# Altium footprint library PcbLib_Acura.PcbLib: 137 footprints (part 7 of 9)
Each footprint in its own frame and in the unit in brackets; x right, y up, seen from the top. Pads: shape width x height; smd on the part's side, far side on the other; paste and mask are expansions set on the pad; w line width, h text height; cw(c..) or ccw(c..) is an arc to the next point about the centre after c.
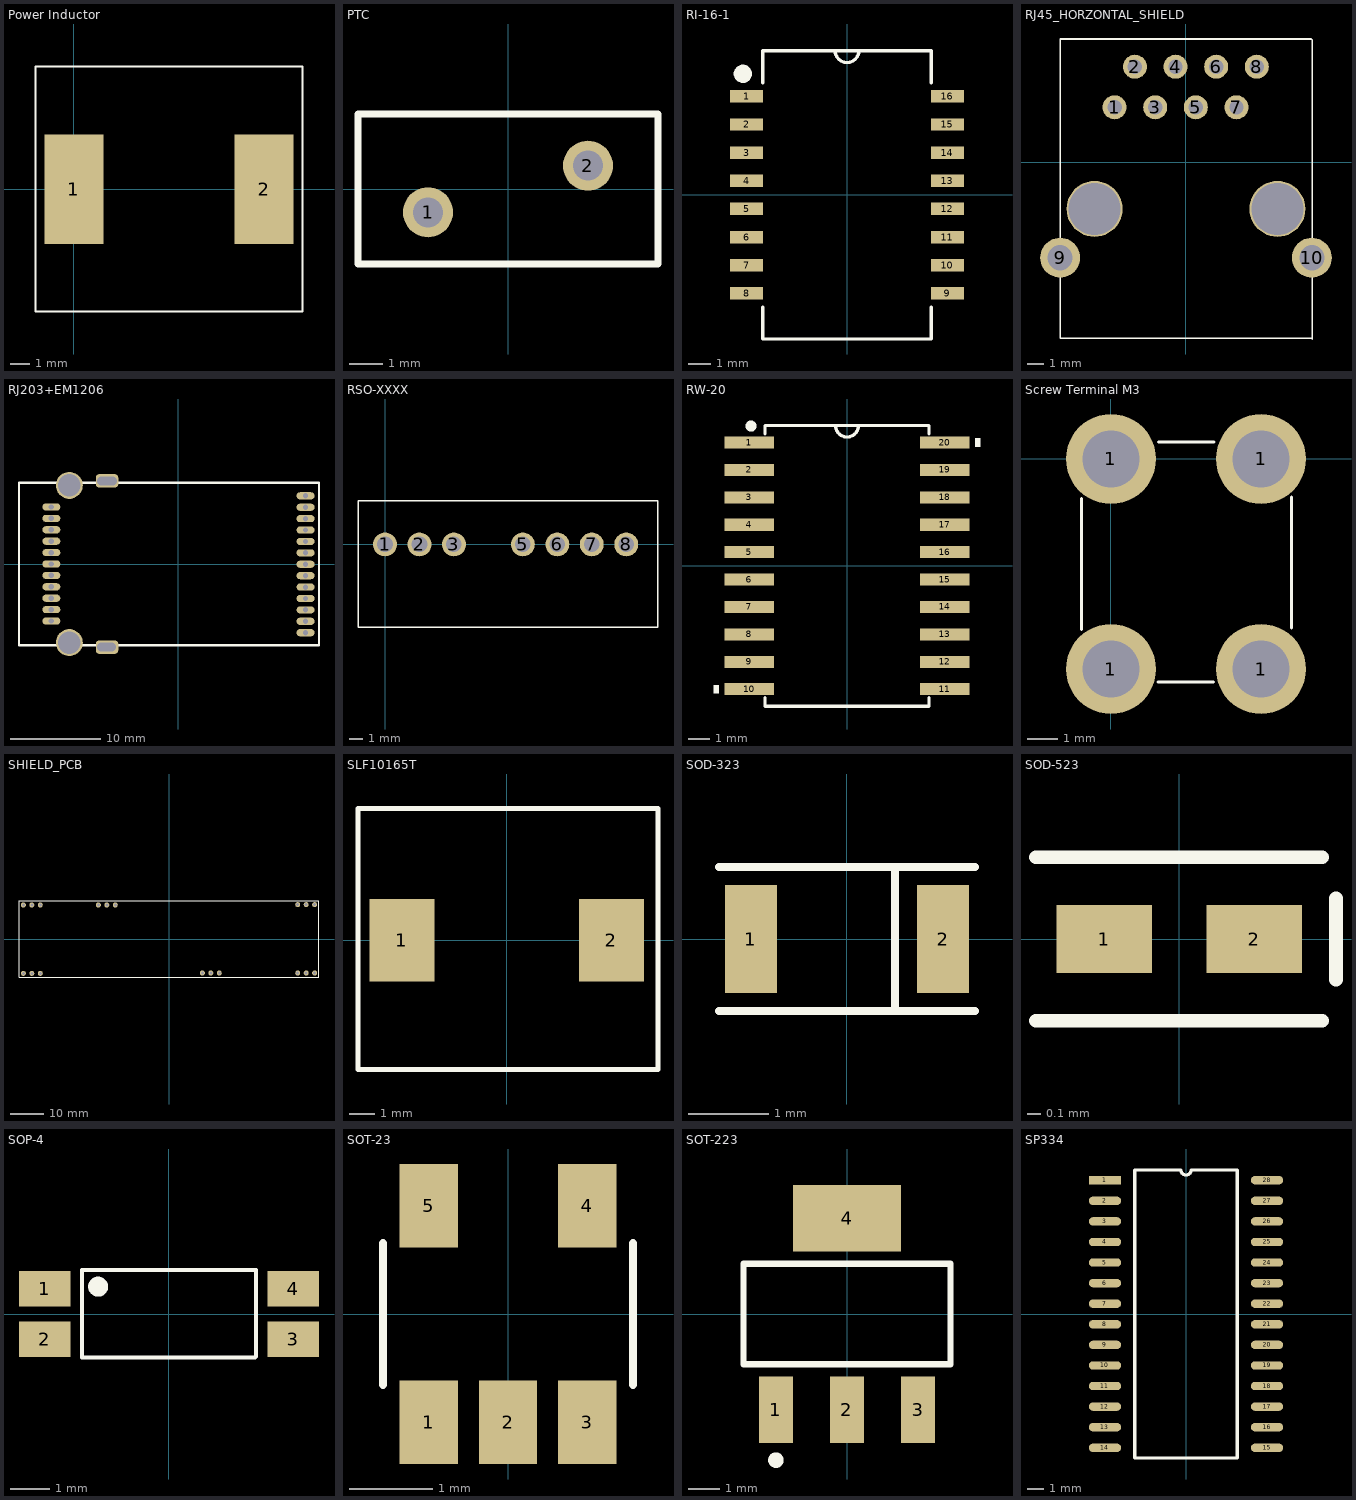
[diagram p6: the footprints below, top view; thin cyan lines are the x and y axes]

## Power Inductor [mm] "Inductor"
pads (2):
  rect 3x5.6 smd: 1(0,0) 2(9.7,0)
Top Overlay:
  lines w0.1: -1.96,-6.24 -1.96,6.26 11.66,6.26 11.66,-6.24 -1.96,-6.24

## PTC [mm]
pads (2):
  round 1.5 hole 0.9: 1(-2.4,-0.7) 2(2.4,0.7)
Top Overlay:
  lines w0.2: -4.5,-2.25 -4.5,2.25 4.5,2.25 4.5,-2.25 -4.5,-2.25

## RI-16-1 [mm] "For ADM2682E"
pads (16):
  rect 1.5x0.561 smd: 1(-4.527,4.445) 2(-4.527,3.175) 3(-4.527,1.905) 4(-4.527,0.635) 5(-4.527,-0.635) 6(-4.527,-1.905) 7(-4.527,-3.175) 8(-4.527,-4.445) 9(4.527,-4.445) 10(4.527,-3.175) 11(4.527,-1.905) 12(4.527,-0.635) 13(4.527,0.635) 14(4.527,1.905) 15(4.527,3.175) 16(4.527,4.445)
Top Overlay:
  circle w0.254: c-4.699,5.461 r0.284
  circle w0.254: c-4.699,5.461 r0.18
  circle w0.254: c-4.826,5.461 r0.127
  lines w0.152: -3.8,-5.058 -3.8,-6.5 3.8,-6.5 3.8,-5.058 ; -3.8,5.058 -3.8,6.5 3.8,6.5 3.8,5.058 ; -0.531,6.5 ccw(c0,6.5) 0.531,6.5

## RJ45_HORZONTAL_SHIELD [mm]
pads (12):
  round 1.5 hole 0.9: 1(-4.465,3.43) 2(-3.195,5.97) 3(-1.925,3.43) 4(-0.655,5.97) 5(0.615,3.43) 6(1.885,5.97) 7(3.155,3.43) 8(4.425,5.97)
  round 2.5 hole 1.57: 9(-7.865,-5.97) 10(7.865,-5.97)
  round 3.5 hole 3.25 unplated: ""(-5.715,-2.92) ""(5.715,-2.92)
Top Overlay:
  lines w0.1: 7.835,-11 -7.865,-11 -7.865,-2.87 -7.865,7.7 7.835,7.7 ; 7.885,-11.05 7.885,-2.92 7.885,7.65

## RJ203+EM1206 [mm] "BASIC-programmable embedded module"
height 15.5
pads (37):
  oval 2x0.8 hole 0.6: 1A(14.15,7.59) 1B(-14.15,6.35) 2A(14.15,6.32) 2B(-14.15,5.08) 3A(14.15,5.05) 3B(-14.15,3.81) 4A(14.15,3.78) 4B(-14.15,2.54) 5A(14.15,2.51) 5B(-14.15,1.27) 6A(14.15,1.24) 6B(-14.15,0) 7A(14.15,-0.03) 7B(-14.15,-1.27) 8A(14.15,-1.3) 8B(-14.15,-2.54) 9A(14.15,-2.57) 9B(-14.15,-3.81) 10A(14.15,-3.84) 10B(-14.15,-5.08) 11A(14.15,-5.11) 11B(-14.15,-6.35) 12A(14.15,-6.38) 13A(14.15,-7.65)
  round 3 hole 2.5: ""(-12.15,-8.75) ""(-12.15,8.75)
  round 0 hole 1: ""(-8.55,-9.25) ""(-8.55,9.25) ""(-8.25,-9.25) ""(-8.25,9.25) ""(-7.75,-9.25) ""(-7.75,9.25) ""(-7.55,9.25) ""(-7.45,-9.25) ""(-7.35,9.25)
  rrect50% 2.5x1.5 hole 1: ""(-7.95,-9.25) ""(-7.95,9.25)
Top Overlay:
  lines w0.254: -17.75,-9.05 15.65,-9.05 15.65,9.05 -17.75,9.05 -17.75,-9.05
Mechanical 1:
  lines w0.254: 14.09,2.45 14.15,2.51

## RSO-XXXX [mm] "CONV DC DC RECOM"
pads (7):
  round 1.762 hole 1.15: 1(0,0) 2(2.54,0) 3(5.08,0) 5(10.16,0) 6(12.7,0) 7(15.24,0) 8(17.78,0)
Top Overlay:
  lines w0.1: -1.99,-6.1 20.12,-6.1 20.12,3.21 -1.99,3.21 -1.99,-6.1

## RW-20 [mil] "For ADM3251E"
pads (20):
  rect 90.5x22 smd: 1(-178.25,225) 2(-178.25,175) 3(-178.25,125) 4(-178.25,75) 5(-178.25,25) 6(-178.25,-25) 7(-178.25,-75) 8(-178.25,-125) 9(-178.25,-175) 10(-178.25,-225) 11(178.25,-225) 12(178.25,-175) 13(178.25,-125) 14(178.25,-75) 15(178.25,-25) 16(178.25,25) 17(178.25,75) 18(178.25,125) 19(178.25,175) 20(178.25,225)
Top Overlay:
  circle w10: c-175,255 r5
  region: -233.5,-217.5 -243.5,-217.5 -243.5,-232.5 -233.5,-232.5
  region: 233.5,232.5 243.5,232.5 243.5,217.5 233.5,217.5
  lines w6: -149.5,-240.5 -149.5,-256 149.5,-256 149.5,-240.5 ; -149.5,240.5 -149.5,256 149.5,256 149.5,240.5 ; -21,256 ccw(c0,256) 21,256

## Screw Terminal M3 [mm] "TERM PCB SNAP-IN VERT M3 THREAD"
pads (4):
  round 3 hole 1.9: 1(0,-7) 1(0,0) 1(5,-7) 1(5,0)
Top Overlay:
  lines w0.1: -0.99,-5.69 -0.99,-1.32 ; 1.57,-7.43 3.42,-7.43 ; 1.58,0.57 3.43,0.57 ; 6.02,-5.63 6.02,-1.26

## SHIELD_PCB [mm]
pads (18):
  round 1.5 hole 0.9: 1(-43.7,-10.3) 1(-43.7,10.2) 1(-41.16,-10.3) 1(-41.16,10.2) 1(-38.62,-10.3) 1(-38.62,10.2) 1(-21.2,10.2) 1(-18.66,10.2) 1(-16.12,10.2) 1(10,-10.22) 1(12.54,-10.22) 1(15.08,-10.22) 1(38.62,-10.2) 1(38.62,10.3) 1(41.16,-10.2) 1(41.16,10.3) 1(43.7,-10.2) 1(43.7,10.3)
Top Overlay:
  lines w0.1: -45,-11.5 45,-11.5 45,11.5 -45,11.5 -45,-11.5

## SLF10165T [mm]
pads (2):
  rect 2.5x3.2 smd: 1(-4.05,0) 2(4.05,0)
Top Overlay:
  lines w0.2: -5.75,-5 -5.75,5.1 4.35,5.1 5.85,5.1 5.85,-5 4.35,-5 -5.75,-5

## SOD-323 [mm]
pads (2):
  rect 0.65x1.35 smd: 1(-1.2,0) 2(1.2,0)
Top Overlay:
  lines w0.1: -1.6,-0.9 1.6,-0.9 ; -1.6,0.9 1.6,0.9 ; 0.6,-0.9 0.6,0.9

## SOD-523 [mm]
pads (2):
  rect 0.7x0.5 smd: 1(-0.55,0) 2(0.55,0)
Top Overlay:
  lines w0.1: -1.05,-0.6 1.05,-0.6 ; -1.05,0.6 1.05,0.6 ; 1.15,-0.3 1.15,0.3

## SOP-4 [mm]
pads (4):
  rect 1.3x0.9 smd: 1(-3.15,0.635) 2(-3.15,-0.635) 3(3.15,-0.635) 4(3.15,0.635)
Top Overlay:
  circle w0.254: c-1.795,0.692 r0.127
  lines w0.1: 2.18,-1.099 -2.2,-1.099 -2.2,1.115 2.2,1.115 2.2,-1.08

## SOT-23 [mm]
pads (5):
  rect 0.7x1 smd: 1(-0.95,-1.3) 2(0,-1.3) 3(0.95,-1.3) 4(0.95,1.3) 5(-0.95,1.3)
Top Overlay:
  lines w0.1: -1.5,-0.85 -1.5,0.85 ; 1.5,-0.85 1.5,0.85

## SOT-223 [mm]
pads (4):
  rect 1.1x2.15 smd: 1(-2.3,-3.1) 2(0,-3.1) 3(2.3,-3.1)
  rect 3.5x2.15 smd: 4(0,3.1)
Top Overlay:
  circle w0.25: c-2.3,-4.725 r0.125
  lines w0.2: -3.35,-1.625 -3.35,1.625 3.35,1.625 3.35,-1.625 -3.35,-1.625

## SP334 [mm]
pads (28):
  rect 2x0.51 smd: 1(-5,8.255)
  oval 2x0.51 smd: 2(-5,6.985) 3(-5,5.715) 4(-5,4.445) 5(-5,3.175) 6(-5,1.905) 7(-5,0.635) 8(-5,-0.635) 9(-5,-1.905) 10(-5,-3.175) 11(-5,-4.445) 12(-5,-5.715) 13(-5,-6.985) 14(-5,-8.255) 15(5,-8.255) 16(5,-6.985) 17(5,-5.715) 18(5,-4.445) 19(5,-3.175) 20(5,-1.905) 21(5,-0.635) 22(5,0.635) 23(5,1.905) 24(5,3.175) 25(5,4.445) 26(5,5.715) 27(5,6.985) 28(5,8.255)
Top Overlay:
  lines w0.2: -3.165,-8.89 -3.165,8.89 -0.318,8.89 ccw(c0,8.89) 0.318,8.89 3.165,8.89 3.165,-8.89 -3.165,-8.89